# Altium footprint library WIZ820IO.PcbLib: 1 footprints
Each footprint in its own frame and in the unit in brackets; x right, y up, seen from the top. Pads: shape width x height; smd on the part's side, far side on the other; paste and mask are expansions set on the pad; w line width, h text height; cw(c..) or ccw(c..) is an arc to the next point about the centre after c.
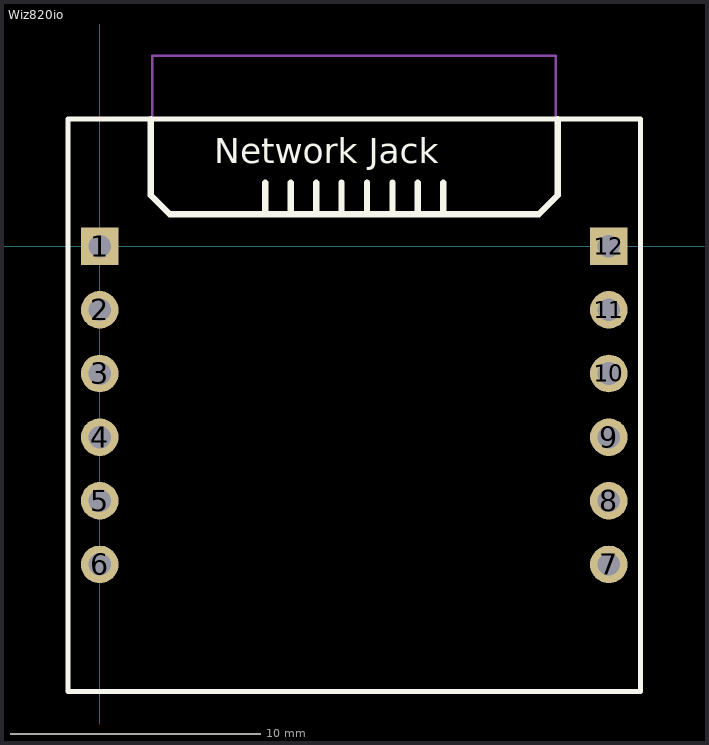
[diagram p0: the footprint, top view; thin cyan lines are the x and y axes]

## Wiz820io [mm] "Wiz820io"
height 20
pads (12):
  rect 1.5x1.5 hole 0.9: 1(0,0) 12(20.32,0)
  round 1.5 hole 0.9: 2(0,-2.54) 3(0,-5.08) 4(0,-7.62) 5(0,-10.16) 6(0,-12.7) 7(20.32,-12.7) 8(20.32,-10.16) 9(20.32,-7.62) 10(20.32,-5.08) 11(20.32,-2.54)
Top Overlay:
  lines w0.2: -1.27,-17.78 -1.27,-12.7 -1.27,5.08 21.59,5.08 21.59,-17.78 -1.27,-17.78
  lines w0.254: 2.032,5.08 2.032,2.032 2.794,1.27 10.16,1.27 17.526,1.27 18.288,2.032 18.288,5.08 ; 6.604,1.27 6.604,2.54 ; 7.62,1.27 7.62,2.54 ; 8.636,1.27 8.636,2.54 ; 9.652,1.27 9.652,2.54 ; 10.668,1.27 10.668,2.54 ; 11.684,1.27 11.684,2.54 ; 12.7,1.27 12.7,2.54 ; 13.716,1.27 13.716,2.54
  text "Network Jack" at 4.572,3.302 h1
Mechanical 15:
  lines w0.1: -1.3,-17.8 -1.3,5.1 2.1,5.1 2.1,7.6 18.2,7.6 18.2,5.1 21.6,5.1 21.6,-17.8 -1.3,-17.8